# EAGLE library part CAP-4PACK-0603 (library FlashPCB_Capacitors)
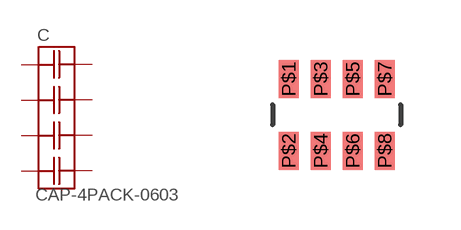
[diagram p0: symbol with the pads of CAP-4PACK-0603; footprint CAP-4PACK-0603]

Designator prefix C

## CAP-4PACK-0603  [CAP-4PACK-0603]
P$1  P$1
P$2  P$2
P$3  P$3
P$4  P$4
P$5  P$5
P$6  P$6
P$7  P$7
P$8  P$8

## Footprint CAP-4PACK-0603 (pad centres in mm)
smd 0.5 x 0.95: P$1 -1.2,0.9; P$2 -1.2,-0.9; P$3 -0.4,0.9; P$4 -0.4,-0.9; P$5 0.4,0.9; P$6 0.4,-0.9; P$7 1.2,0.9; P$8 1.2,-0.9